# EAGLE library part STM32G071C828UQFPN (library STM32G071C8)
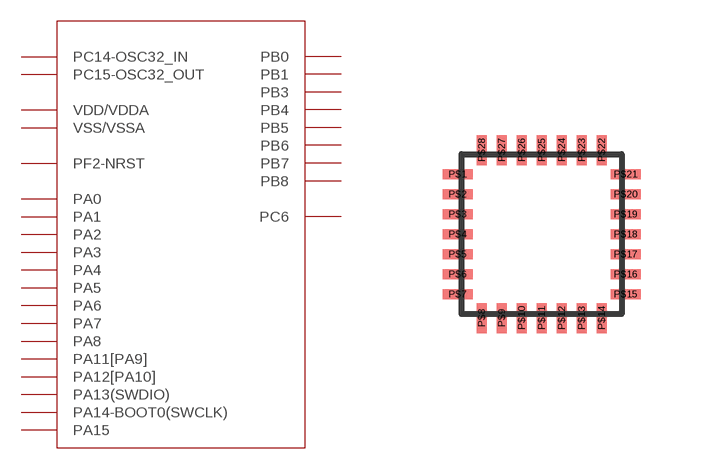
[diagram p0: symbol with the pads of 28-UFQFPN; footprint 28-UFQFPN]

Designator prefix -

## STM32G071C828UQFPN  [28-UFQFPN]
P$1  PC14-OSC32_IN  in
P$2  PC15-OSC32_OUT  out
P$3  VDD/VDDA  pwr
P$4  VSS/VSSA  pwr
P$5  PF2-NRST
P$6  PA0
P$7  PA1
P$8  PA2
P$9  PA3
P$10  PA4
P$11  PA5
P$12  PA6
P$13  PA7
P$14  PB0
P$15  PB1
P$16  PA8
P$17  PC6
P$18  PA11[PA9]
P$19  PA12[PA10]
P$20  PA13(SWDIO)
P$21  PA14-BOOT0(SWCLK)
P$22  PA15
P$23  PB3
P$24  PB4
P$25  PB5
P$26  PB6
P$27  PB7
P$28  PB8

## Footprint 28-UFQFPN (pad centres in mm)
smd 0.75 x 0.25: P$1 -2.1,1.5; P$2 -2.1,1; P$3 -2.1,0.5; P$4 -2.1,0; P$5 -2.1,-0.5; P$6 -2.1,-1; P$7 -2.1,-1.5; P$15 2.1,-1.5; P$16 2.1,-1; P$17 2.1,-0.5; P$18 2.1,0; P$19 2.1,0.5; P$20 2.1,1; P$21 2.1,1.5
smd 0.25 x 0.75: P$8 -1.5,-2.1; P$9 -1,-2.1; P$10 -0.5,-2.1; P$11 0,-2.1; P$12 0.5,-2.1; P$13 1,-2.1; P$14 1.5,-2.1; P$22 1.5,2.1; P$23 1,2.1; P$24 0.5,2.1; P$25 0,2.1; P$26 -0.5,2.1; P$27 -1,2.1; P$28 -1.5,2.1